# Altium footprint library LQ-RT1052VA1.PcbLib: 1 footprints
Each footprint in its own frame and in the unit in brackets; x right, y up, seen from the top. Pads: shape width x height; smd on the part's side, far side on the other; paste and mask are expansions set on the pad; w line width, h text height; cw(c..) or ccw(c..) is an arc to the next point about the centre after c.
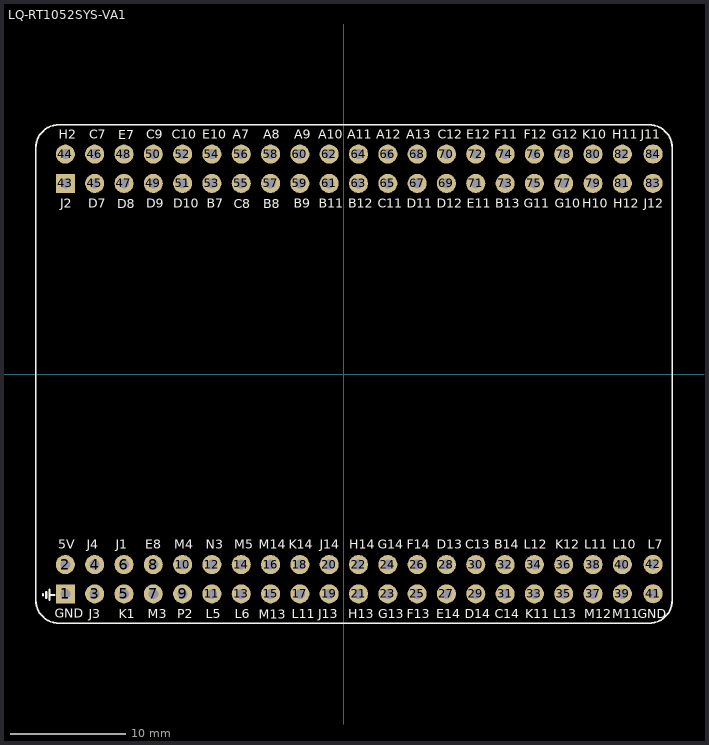
[diagram p0: the footprint, top view; thin cyan lines are the x and y axes]

## LQ-RT1052SYS-VA1 [mm]
pads (84):
  rect 1.65x1.65 hole 0.86: 1(-24.13,-19.05) 43(-24.13,16.51)
  round 1.65 hole 0.86: 2(-24.13,-16.51) 3(-21.59,-19.05) 4(-21.59,-16.51) 5(-19.05,-19.05) 6(-19.05,-16.51) 7(-16.51,-19.05) 8(-16.51,-16.51) 9(-13.97,-19.05) 10(-13.97,-16.51) 11(-11.43,-19.05) 12(-11.43,-16.51) 13(-8.89,-19.05) 14(-8.89,-16.51) 15(-6.35,-19.05) 16(-6.35,-16.51) 17(-3.81,-19.05) 18(-3.81,-16.51) 19(-1.27,-19.05) 20(-1.27,-16.51) 21(1.27,-19.05) 22(1.27,-16.51) 23(3.81,-19.05) 24(3.81,-16.51) 25(6.35,-19.05) 26(6.35,-16.51) 27(8.89,-19.05) 28(8.89,-16.51) 29(11.43,-19.05) 30(11.43,-16.51) 31(13.97,-19.05) 32(13.97,-16.51) 33(16.51,-19.05) 34(16.51,-16.51) 35(19.05,-19.05) 36(19.05,-16.51) 37(21.59,-19.05) 38(21.59,-16.51) 39(24.13,-19.05) 40(24.13,-16.51) 41(26.79,-19.04) 42(26.79,-16.5) 44(-24.13,19.05) 45(-21.59,16.51) 46(-21.59,19.05) 47(-19.05,16.51) 48(-19.05,19.05) 49(-16.51,16.51) 50(-16.51,19.05) 51(-13.97,16.51) 52(-13.97,19.05) 53(-11.43,16.51) 54(-11.43,19.05) 55(-8.89,16.51) 56(-8.89,19.05) 57(-6.35,16.51) 58(-6.35,19.05) 59(-3.81,16.51) 60(-3.81,19.05) 61(-1.27,16.51) 62(-1.27,19.05) 63(1.27,16.51) 64(1.27,19.05) 65(3.81,16.51) 66(3.81,19.05) 67(6.35,16.51) 68(6.35,19.05) 69(8.89,16.51) 70(8.89,19.05) 71(11.43,16.51) 72(11.43,19.05) 73(13.97,16.51) 74(13.97,19.05) 75(16.51,16.51) 76(16.51,19.05) 77(19.05,16.51) 78(19.05,19.05) 79(21.59,16.51) 80(21.59,19.05) 81(24.13,16.51) 82(24.13,19.05) 83(26.79,16.52) 84(26.79,19.06)
Top Overlay:
  lines w0.15: -26.689,-19.59 ccw(c-24.689,-19.59) -24.689,-21.59 26.448,-21.59 ccw(c26.448,-19.59) 28.448,-19.59 28.448,19.59 ccw(c26.448,19.59) 26.448,21.59 -24.689,21.59 ccw(c-24.689,19.59) -26.689,19.59 -26.689,-19.59
  lines w0.18: -26.064,-19.195 -26.064,-19.075 ; -25.784,-19.395 -25.784,-18.875 ; -25.494,-19.595 -25.494,-18.675 ; -25.494,-19.135 -25.054,-19.135
  text "J11" at 25.714,20.38 h0.8
  text "L7" at 26.31,-15.14 h0.8
  text "J12" at 25.985,14.415 h0.8
  text "GND" at 25.46,-21.18 h0.8
  text "M11" at 23.247,-21.163 h0.8
  text "M4" at -14.675,-15.161 h0.8
  text "H12" at 23.325,14.405 h0.8
  text "M3" at -17.009,-21.178 h0.8
  text "P2" at -14.418,-21.178 h0.8
  text "M13" at -7.38,-21.19 h0.8
  text "L11" at -4.51,-21.163 h0.8
  text "L5" at -11.98,-21.178 h0.8
  text "J13" at -2.209,-21.163 h0.8
  text "M12" at 20.822,-21.163 h0.8
  text "L6" at -9.448,-21.163 h0.8
  text "E14" at 8.016,-21.163 h0.8
  text "G13" at 2.962,-21.163 h0.8
  text "C14" at 13.071,-21.163 h0.8
  text "D14" at 10.455,-21.163 h0.8
  text "F13" at 5.451,-21.163 h0.8
  text "H13" at 0.396,-21.163 h0.8
  text "H14" at 0.476,-15.146 h0.8
  text "F14" at 5.454,-15.146 h0.8
  text "C13" at 10.534,-15.146 h0.8
  text "B14" at 13.049,-15.146 h0.8
  text "G14" at 2.94,-15.146 h0.8
  text "D13" at 8.055,-15.145 h0.8
  text "M14" at -7.371,-15.146 h0.8
  text "L11" at 20.822,-15.146 h0.8
  text "J14" at -2.1,-15.146 h0.8
  text "N3" at -11.983,-15.161 h0.8
  text "L10" at 23.312,-15.146 h0.8
  text "K14" at -4.755,-15.146 h0.8
  text "M5" at -9.494,-15.161 h0.8
  text "E8" at -17.188,-15.161 h0.8
  text "C9" at -17.128,20.37 h0.8
  text "B13" at 13.115,14.395 h0.8
  text "G11" at 15.577,14.396 h0.8
  text "C10" at -14.901,20.37 h0.8
  text "A7" at -9.618,20.37 h0.8
  text "A9" at -4.309,20.37 h0.8
  text "A10" at -2.226,20.37 h0.8
  text "E10" at -12.259,20.37 h0.8
  text "A12" at 2.828,20.37 h0.8
  text "A8" at -7.002,20.37 h0.8
  text "G12" at 18.07,20.37 h0.8
  text "C12" at 8.142,20.37 h0.8
  text "H11" at 23.25,20.37 h0.8
  text "K10" at 20.67,20.37 h0.8
  text "E12" at 10.626,20.37 h0.8
  text "A13" at 5.394,20.37 h0.8
  text "D8" at -19.635,14.37 h0.8
  text "D9" at -17.133,14.396 h0.8
  text "F11" at 13.015,20.37 h0.8
  text "F12" at 15.59,20.375 h0.8
  text "B7" at -11.895,14.396 h0.8
  text "C8" at -9.525,14.351 h0.8
  text "B9" at -4.326,14.396 h0.8
  text "D10" at -14.791,14.396 h0.8
  text "B11" at -2.192,14.396 h0.8
  text "B12" at 0.373,14.396 h0.8
  text "B8" at -6.985,14.351 h0.8
  text "E11" at 10.635,14.396 h0.8
  text "D11" at 5.453,14.396 h0.8
  text "H10" at 20.67,14.395 h0.8
  text "G10" at 18.265,14.41 h0.8
  text "D12" at 8.06,14.4 h0.8
  text "C11" at 2.939,14.396 h0.8
  text "5V" at -24.75,-15.16 h0.8
  text "GND" at -25.068,-21.133 h0.8
  text "A11" at 0.314,20.37 h0.8
  text "L13" at 18.135,-21.163 h0.8
  text "K11" at 15.696,-21.163 h0.8
  text "K12" at 18.322,-15.146 h0.8
  text "L12" at 15.571,-15.146 h0.8
  text "C7" at -22.063,20.37 h0.8
  text "E7" at -19.53,20.35 h0.8
  text "D7" at -22.143,14.396 h0.8
  text "J4" at -22.288,-15.146 h0.8
  text "K1" at -19.518,-21.163 h0.8
  text "J3" at -22.109,-21.163 h0.8
  text "J1" at -19.775,-15.146 h0.8
  text "J2" at -24.585,14.395 h0.8
  text "H2" at -24.715,20.369 h0.8